# Altium footprint library fromST.PcbLib: 65 footprints (part 3 of 5)
Each footprint in its own frame and in the unit in brackets; x right, y up, seen from the top. Pads: shape width x height; smd on the part's side, far side on the other; paste and mask are expansions set on the pad; w line width, h text height; cw(c..) or ccw(c..) is an arc to the next point about the centre after c.
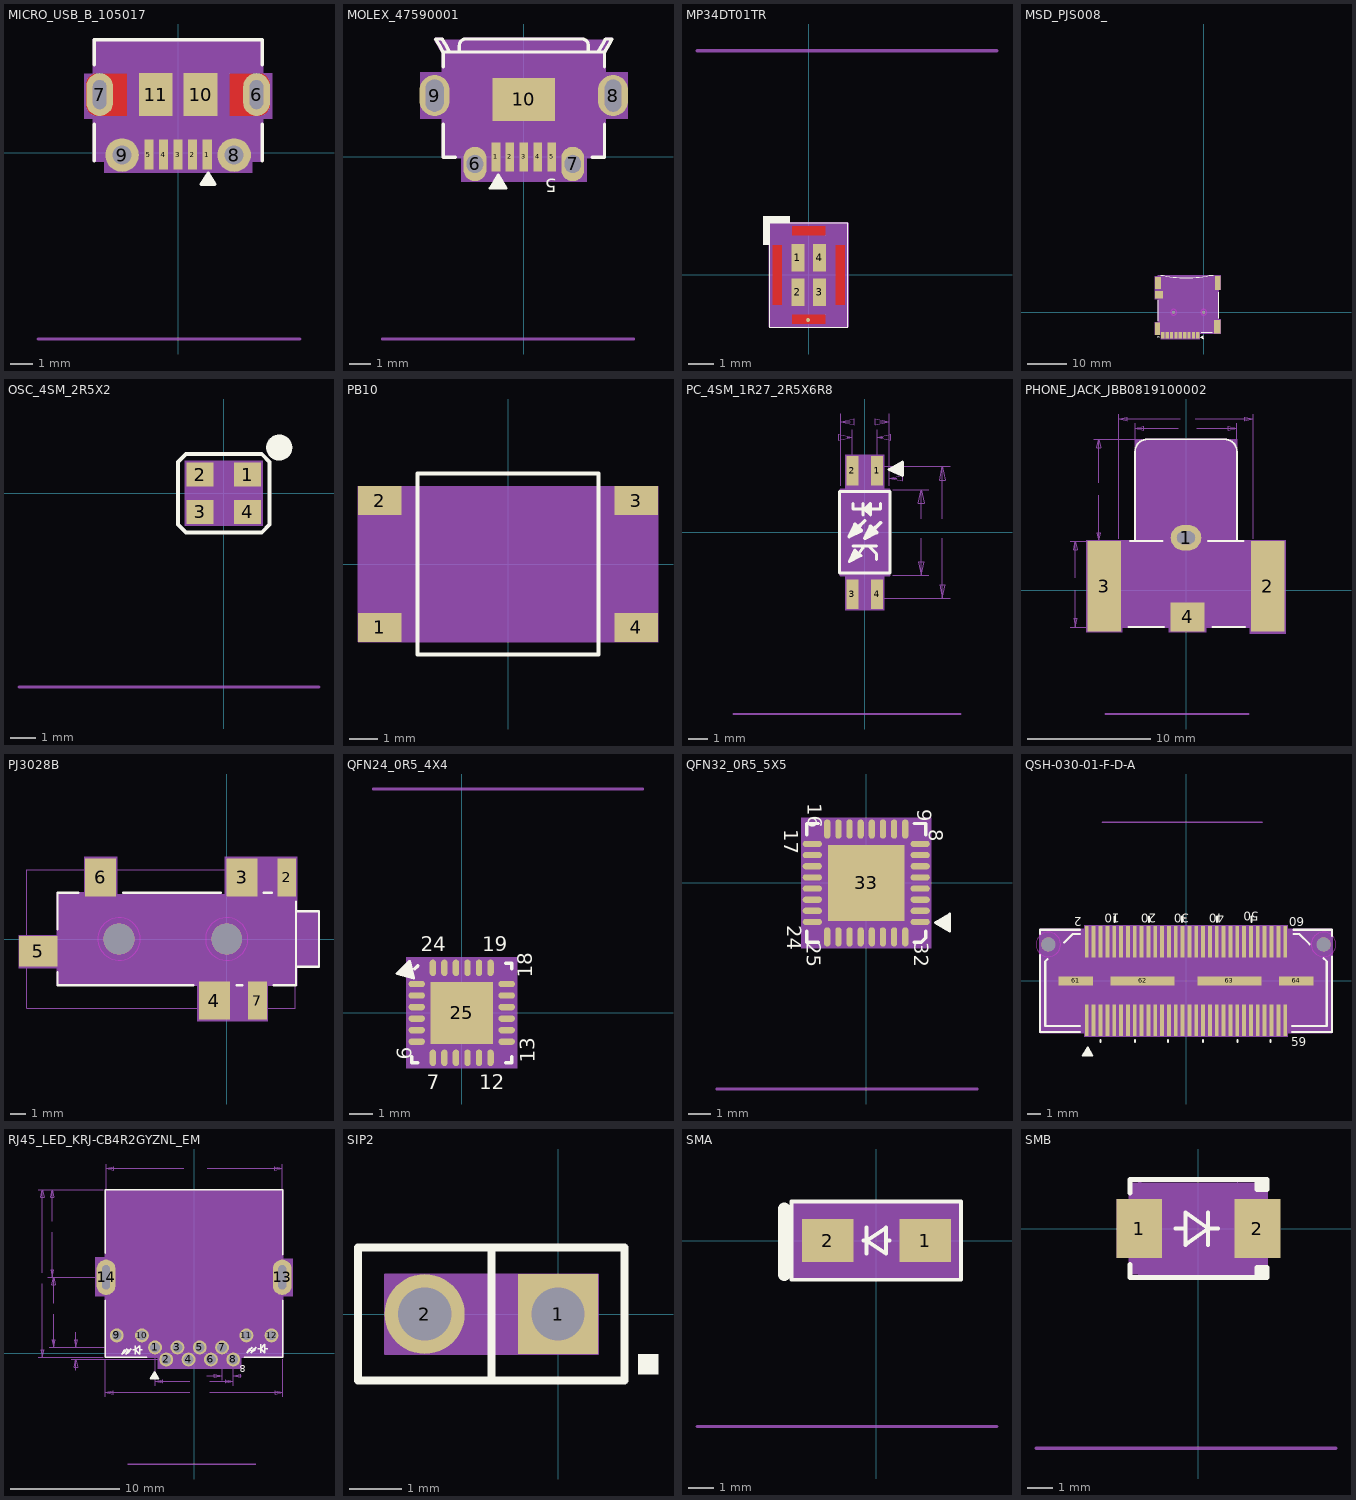
[diagram p2: the footprints below, top view; thin cyan lines are the x and y axes]

## MICRO_USB_B_105017 [mil]
pads (11):
  rect 16x53 smd: 1(51.18,-2.95) 2(25.59,-2.95) 3(0,-2.95) 4(-25.59,-2.95) 5(-51.18,-2.95)
  oval 47x75 hole 24 slot 51 at 90 deg: 6(137.8,102.36) 7(-137.8,102.36)
  round 59 hole 33: 8(98.43,-3.94) 9(-98.43,-3.94)
  rect 59x75 smd: 10(39.37,102.36) 11(-39.37,102.36)
Top Layer:
  region: -161.42,120.08 -161.42,84.65 -161.35,82.93 -161.12,81.23 -160.75,79.55 -160.23,77.92 -159.58,76.33 -158.78,74.81 -157.86,73.36 -156.81,71.99 -155.65,70.73 -154.39,69.57 -153.02,68.52 -151.57,67.6 -150.05,66.8 -148.46,66.15 -146.83,65.63 -145.15,65.26 -143.45,65.03 -141.73,64.96 -90.55,64.96 -90.55,139.25 -146.19,139.25 -147.84,138.79 -149.45,138.19 -151,137.45 -152.48,136.57 -153.87,135.57 -155.18,134.46 -156.38,133.23 -157.47,131.9 -158.44,130.49 -159.29,128.99 -160,127.43 -160.57,125.81 -160.99,124.15 -161.28,122.45 -161.41,120.74
  region: 161.42,84.65 161.42,120.08 161.34,121.8 161.12,123.5 160.75,125.17 160.23,126.81 159.57,128.4 158.78,129.92 157.86,131.37 156.81,132.73 155.65,133.99 154.38,135.15 153.02,136.2 151.57,137.12 150.05,137.91 148.46,138.57 146.97,139.05 90.55,139.05 90.55,64.96 141.73,64.96 143.45,65.03 145.15,65.26 146.83,65.63 148.46,66.15 150.05,66.8 151.57,67.6 153.02,68.52 154.39,69.57 155.65,70.73 156.81,71.99 157.86,73.36 158.78,74.81 159.58,76.33 160.23,77.92 160.75,79.55 161.12,81.23 161.35,82.93
Bottom Layer:
  region: 161.42,84.65 161.42,120.08 161.34,121.8 161.12,123.5 160.75,125.17 160.23,126.81 159.57,128.4 158.78,129.92 157.86,131.37 156.81,132.73 155.65,133.99 154.38,135.15 153.02,136.2 151.57,137.12 150.05,137.91 148.46,138.57 146.97,139.05 90.55,139.05 90.55,64.96 141.73,64.96 143.45,65.03 145.15,65.26 146.83,65.63 148.46,66.15 150.05,66.8 151.57,67.6 153.02,68.52 154.39,69.57 155.65,70.73 156.81,71.99 157.86,73.36 158.78,74.81 159.58,76.33 160.23,77.92 160.75,79.55 161.12,81.23 161.35,82.93
  region: -161.42,120.08 -161.42,84.65 -161.35,82.93 -161.12,81.23 -160.75,79.55 -160.23,77.92 -159.58,76.33 -158.78,74.81 -157.86,73.36 -156.81,71.99 -155.65,70.73 -154.39,69.57 -153.02,68.52 -151.57,67.6 -150.05,66.8 -148.46,66.15 -146.83,65.63 -145.15,65.26 -143.45,65.03 -141.73,64.96 -90.55,64.96 -90.55,139.25 -146.19,139.25 -147.84,138.79 -149.45,138.19 -151,137.45 -152.48,136.57 -153.87,135.57 -155.18,134.46 -156.38,133.23 -157.47,131.9 -158.44,130.49 -159.29,128.99 -160,127.43 -160.57,125.81 -160.99,124.15 -161.28,122.45 -161.41,120.74
Top Overlay:
  lines w5: 52,-46.5 57,-46.5 53,-40.5 47,-49.5 58,-49.5 60,-52.5 45,-52.5 40,-55.55 ; 40,-55.55 65,-55.55 ; 40,-55.55 53,-35.5 65,-55.55 ; 40,-55.55 65,-55.55
  lines w6: -147.64,-13.78 -147.64,50 ; -147.64,155 -147.64,198.82 147.64,198.82 147.64,155 ; 147.64,-13.78 147.64,50
  text ".Designator" at 297,84.45 h34
Top Paste:
  pour cut-out: 161.42,84.65 161.42,120.08 161.35,121.8 161.12,123.5 160.75,125.17 160.23,126.81 159.58,128.4 158.78,129.92 157.86,131.37 156.82,132.73 155.66,134 154.39,135.16 153.03,136.2 151.58,137.12 150.06,137.92 148.47,138.57 146.83,139.09 145.16,139.46 143.46,139.69 141.74,139.76 141.73,139.76 90.55,139.76 90.55,64.96 141.73,64.96 143.45,65.03 145.15,65.26 146.83,65.63 148.46,66.15 150.05,66.8 151.57,67.6 153.02,68.52 154.39,69.57 155.65,70.73 156.81,71.99 157.86,73.36 158.78,74.81 159.58,76.33 160.23,77.92 160.75,79.55 161.12,81.23 161.35,82.93
  pour cut-out: -161.42,120.08 -161.42,84.65 -161.35,82.93 -161.12,81.23 -160.75,79.55 -160.23,77.92 -159.58,76.33 -158.78,74.81 -157.86,73.36 -156.81,71.99 -155.65,70.73 -154.39,69.57 -153.02,68.52 -151.57,67.6 -150.05,66.8 -148.46,66.15 -146.83,65.63 -145.15,65.26 -143.45,65.03 -141.73,64.96 -90.55,64.96 -90.55,139.76 -141.73,139.76 -143.45,139.69 -145.15,139.46 -146.82,139.09 -148.46,138.58 -150.05,137.92 -151.57,137.13 -153.02,136.21 -154.38,135.16 -155.65,134 -156.81,132.74 -157.86,131.38 -158.78,129.93 -159.57,128.41 -160.23,126.82 -160.75,125.18 -161.12,123.51 -161.34,121.81 -161.42,120.09
Bottom Paste:
  pour cut-out: 161.42,84.65 161.42,120.08 161.35,121.8 161.12,123.5 160.75,125.17 160.23,126.81 159.58,128.4 158.78,129.92 157.86,131.37 156.82,132.73 155.66,134 154.39,135.16 153.03,136.2 151.58,137.12 150.06,137.92 148.47,138.57 146.83,139.09 145.16,139.46 143.46,139.69 141.74,139.76 141.73,139.76 90.55,139.76 90.55,64.96 141.73,64.96 143.45,65.03 145.15,65.26 146.83,65.63 148.46,66.15 150.05,66.8 151.57,67.6 153.02,68.52 154.39,69.57 155.65,70.73 156.81,71.99 157.86,73.36 158.78,74.81 159.58,76.33 160.23,77.92 160.75,79.55 161.12,81.23 161.35,82.93
  pour cut-out: -161.42,120.08 -161.42,84.65 -161.35,82.93 -161.12,81.23 -160.75,79.55 -160.23,77.92 -159.58,76.33 -158.78,74.81 -157.86,73.36 -156.81,71.99 -155.65,70.73 -154.39,69.57 -153.02,68.52 -151.57,67.6 -150.05,66.8 -148.46,66.15 -146.83,65.63 -145.15,65.26 -143.45,65.03 -141.73,64.96 -90.55,64.96 -90.55,139.76 -141.73,139.76 -143.45,139.69 -145.15,139.46 -146.82,139.09 -148.46,138.58 -150.05,137.92 -151.57,137.13 -153.02,136.21 -154.38,135.16 -155.65,134 -156.81,132.74 -157.86,131.38 -158.78,129.93 -159.57,128.41 -160.23,126.82 -160.75,125.18 -161.12,123.51 -161.34,121.81 -161.42,120.09
Top Solder:
  pour cut-out: -164.42,84.65 -164.42,120.08 -164.33,122.06 -164.08,124.02 -163.65,125.95 -163.05,127.84 -162.3,129.66 -161.38,131.42 -160.32,133.09 -159.11,134.66 -157.78,136.12 -156.32,137.45 -154.75,138.66 -153.08,139.72 -151.32,140.64 -149.5,141.39 -147.61,141.99 -145.68,142.42 -143.72,142.67 -141.74,142.76 -141.73,142.76 -87.55,142.76 -87.55,61.96 -141.73,61.96 -143.71,62.05 -145.67,62.3 -147.6,62.73 -149.49,63.33 -151.32,64.09 -153.07,65 -154.74,66.06 -156.31,67.27 -157.77,68.61 -159.11,70.07 -160.32,71.64 -161.38,73.31 -162.29,75.06 -163.05,76.89 -163.65,78.78 -164.08,80.71 -164.33,82.67
  pour cut-out: 164.42,120.08 164.42,84.65 164.33,82.67 164.08,80.71 163.65,78.78 163.05,76.89 162.29,75.06 161.38,73.31 160.32,71.64 159.11,70.07 157.77,68.61 156.31,67.27 154.74,66.06 153.07,65 151.32,64.09 149.49,63.33 147.6,62.73 145.67,62.3 143.71,62.05 141.73,61.96 87.55,61.96 87.55,142.76 141.73,142.76 143.71,142.67 145.67,142.42 147.6,141.99 149.49,141.4 151.32,140.64 153.07,139.73 154.74,138.66 156.31,137.46 157.77,136.12 159.11,134.67 160.31,133.1 161.38,131.43 162.29,129.67 163.05,127.85 163.64,125.96 164.07,124.03 164.33,122.07 164.42,120.09
Bottom Solder:
  pour cut-out: 164.42,120.08 164.42,84.65 164.33,82.67 164.08,80.71 163.65,78.78 163.05,76.89 162.29,75.06 161.38,73.31 160.32,71.64 159.11,70.07 157.77,68.61 156.31,67.27 154.74,66.06 153.07,65 151.32,64.09 149.49,63.33 147.6,62.73 145.67,62.3 143.71,62.05 141.73,61.96 87.55,61.96 87.55,142.76 141.73,142.76 143.71,142.67 145.67,142.42 147.6,141.99 149.49,141.4 151.32,140.64 153.07,139.73 154.74,138.66 156.31,137.46 157.77,136.12 159.11,134.67 160.31,133.1 161.38,131.43 162.29,129.67 163.05,127.85 163.64,125.96 164.07,124.03 164.33,122.07 164.42,120.09
  pour cut-out: -164.42,84.65 -164.42,120.08 -164.33,122.06 -164.08,124.02 -163.65,125.95 -163.05,127.84 -162.3,129.66 -161.38,131.42 -160.32,133.09 -159.11,134.66 -157.78,136.12 -156.32,137.45 -154.75,138.66 -153.08,139.72 -151.32,140.64 -149.5,141.39 -147.61,141.99 -145.68,142.42 -143.72,142.67 -141.74,142.76 -141.73,142.76 -87.55,142.76 -87.55,61.96 -141.73,61.96 -143.71,62.05 -145.67,62.3 -147.6,62.73 -149.49,63.33 -151.32,64.09 -153.07,65 -154.74,66.06 -156.31,67.27 -157.77,68.61 -159.11,70.07 -160.32,71.64 -161.38,73.31 -162.29,75.06 -163.05,76.89 -163.65,78.78 -164.08,80.71 -164.33,82.67
Mechanical 32:
  circle w20: c50,0 r10
  region: 165,139.92 150,139.92 150,200 -150,200 -150,138.92 -165,138.92 -165,60 -150,60 -150,-15 -130,-15 -130,-35 130,-35 130,-15 150,-15 150,60 165,60
  lines w5: -246,-327 214,-327 ; -147.64,-13.78 147.64,-13.78 147.64,198.82 -147.64,198.82 -147.64,-13.78
  text "10" at 26.57,102.36 h16
  text "11" at -52.17,102.36 h16
  text "7" at -144.2,102.36 h16
  text "9" at -104.83,-3.94 h16
  text "6" at 131.4,102.36 h16
  text "8" at 92.03,-3.94 h16
  text "5" at -57.58,-2.95 h16
  text "4" at -31.99,-2.95 h16
  text "1" at 44.78,-2.95 h16
  text "2" at 19.19,-2.95 h16
  text "3" at -6.4,-2.95 h16
  text "NO" at -28,120 h35
  text "1050170001" at -60,293.9 h30
  text "MICRO_USB_B_105017" at -241,293.9 h30
  text "Remark: D031-012A1" at 184,-127 h25
  text "Rev   : A1" at 184,-167 h25
  text "Date  : 2014-07-16" at 184,-207 h25
  text "Creat : Yuki" at 184,-247 h25
  text "Ref PN: MOLEX_105017-001" at 184,-287 h25
  text "Sofer Lib Information" at 214,-337 h25
3D body: height 150, standoff 0, extent -165,-35 165,200

## MOLEX_47590001 [mil]
pads (10):
  rect 16x53 smd: 1(-51.18,0) 2(-25.59,0) 3(0,0) 4(25.59,0) 5(51.18,0)
  oval 42x63 hole 30 slot 33 at 90 deg: 6(-89.57,-12.8) 7(89.57,-12.8)
  oval 55x75 hole 30 slot 59 at 90 deg mask+2: 8(163.39,112.4)
  oval 55x75 hole 33 slot 59 at 90 deg mask+2: 9(-163.39,112.4)
  rect 114x79 smd: 10(0,105.31)
Top Overlay:
  lines w5: -48,-43.5 -43,-43.5 -47,-37.5 -53,-46.5 -42,-46.5 -40,-49.5 -55,-49.5 -57,-53.5 -37,-53.5 -37,-57.5 -32,-57.5 ; -32,-57.5 -62,-57.5 -47,-32.5 -32,-57.5
  lines w6: -147.64,60 -147.64,-0.59 -125,-0.59 ; -147.64,165 -147.64,192.32 ; -135.83,192.32 -143.77,205.94 -149.61,215.94 -161.42,215.94 -155.58,205.94 -147.64,192.32 ; -118.11,191.97 -118.11,204.13 cw(c-106.3,204.13) -106.3,215.94 106.3,215.94 cw(c106.3,204.13) 118.11,204.13 118.11,191.97 ; 125,-0.59 147.64,-0.59 147.64,60 ; 135.83,192.32 143.77,205.94 149.61,215.94 161.42,215.94 155.58,205.94 147.64,192.32 ; 147.64,165 147.64,192.32 ; -147.64,192.32 147.64,192.32
  text "5" at 60,-40 h25
  text ".Designator" at -234.87,87.8 h34
Mechanical 16:
  region: -150,70 -190,70 -190,155 -150,155 -150,190 -164.78,215.13 162.51,215.02 150,190 150,155 190,155 190,70 150,70 150,0 115,0 115,-45 -115,-45 -115,0 -150,0
  lines w5: -259,-333.22 201,-333.22 ; -135.83,192.32 -143.77,205.94 -149.61,215.94 -161.42,215.94 -155.58,205.94 -147.64,192.32 ; -118.11,191.97 -118.11,204.13 cw(c-106.3,204.13) -106.3,215.94 106.3,215.94 cw(c106.3,204.13) 118.11,204.13 118.11,191.97 ; -98.43,-0.59 -98.43,-12.4 98.43,-12.4 98.43,-0.59 ; 135.83,192.32 143.77,205.94 149.61,215.94 161.42,215.94 155.58,205.94 147.64,192.32 ; -147.64,192.32 -147.64,129.13 -170.28,129.13 -170.28,95.67 -147.64,95.67 -147.64,-0.59 147.64,-0.59 147.64,95.67 170.28,95.67 170.28,129.13 147.64,129.13 147.64,192.32 ; -147.64,192.32 147.64,192.32
Mechanical 32:
  text "4" at 19.19,0 h16
  text "9" at -169.79,112.4 h16
  text "8" at 156.99,112.4 h16
  text "10" at -12.8,105.31 h16
  text "5" at 44.78,0 h16
  text "7" at 83.17,-12.8 h16
  text "6" at -95.97,-12.8 h16
  text "1" at -57.58,0 h16
  text "2" at -31.99,0 h16
  text "3" at -6.4,0 h16
  text "475900001" at -73,330 h30
  text "MOLEX_47590001" at -183,335 h30
  text "Remark: D031-005A1" at 171,-133.22 h25
  text "Rev   : A1" at 171,-173.22 h25
  text "Date  : 2011-10-18" at 171,-213.22 h25
  text "Creat : Yuki" at 171,-253.22 h25
  text "Ref PN: MOLEX 47590001" at 171,-293.22 h25
  text "Sofer Lib Information" at 201,-343.22 h25
3D body: height 150, standoff 0, extent -190,-45 190,215.13

## MP34DT01TR [mil]
pads (5):
  rect 20x42 smd: 1(-16.73,26.57) 2(-16.73,-26.57) 3(16.73,-26.57) 4(16.73,26.57)
  round 6 smd: 5(-1,-69)
Top Layer:
  region: -25.59,74.89 -25.59,61.11 25.59,61.11 25.59,74.89
  region: -25.59,-61.11 -25.59,-74.89 25.59,-74.89 25.59,-61.11
  region: -54.89,45.28 -54.89,-45.28 -41.11,-45.28 -41.11,45.28
  region: 41.11,45.28 41.11,-45.28 54.89,-45.28 54.89,45.28
Top Overlay:
  pour cut-out: -29,80 -29,90 -70,90 -70,46 -60,46 -60,80
  lines w1: -60,-80 -60,80 60,80 60,-80 -60,-80
  text ".Designator" at -85.06,-89.43 h34
Top Paste:
  pour cut-out: -25.59,-74.89 25.59,-74.89 25.59,-61.11 -25.59,-61.11
  pour cut-out: 41.11,-45.28 54.89,-45.28 54.89,45.28 41.11,45.28
  pour cut-out: -54.89,-45.28 -41.11,-45.28 -41.11,45.28 -54.89,45.28
  pour cut-out: -25.59,61.11 25.59,61.11 25.59,74.89 -25.59,74.89
Top Solder:
  pour cut-out: -25.59,61.11 25.59,61.11 25.59,74.89 -25.59,74.89
  pour cut-out: 41.11,-45.28 54.89,-45.28 54.89,45.28 41.11,45.28
  pour cut-out: -54.89,-45.28 -41.11,-45.28 -41.11,45.28 -54.89,45.28
  pour cut-out: -25.59,-74.89 25.59,-74.89 25.59,-61.11 -25.59,-61.11
Mechanical 16:
  circle w20: c-46,67 r10
  region: 58.89,-79.08 58.89,78.76 -58.42,78.76 -58.42,-79.08
  lines w5: -171.42,343.69 288.58,343.69 ; -59.06,-78.74 -59.06,78.74 59.06,78.74 59.06,-78.74 -59.06,-78.74
Mechanical 32:
  text "OK" at 0,-28 h35
  text "Remark: D031-006A1" at -141.42,143.69 h25
  text "Rev   : A1" at -141.42,183.69 h25
  text "Date  : 2012-07-31" at -141.42,223.69 h25
  text "Creat : Yuki" at -141.42,263.69 h25
  text "Ref PN: MP34DT01TR" at -141.42,303.69 h25
  text "Sofer Lib Information" at -171.42,353.69 h25
  text "MP34DT01" at 26.14,-240.58 h30
  text "MP34DT01TR" at 20.71,-270.02 h30
  text "3" at 22.04,-44.51 h16
  text "1" at -11.43,8.64 h16
  text "2" at -11.43,-44.51 h16
  text "4" at 22.04,8.64 h16
  text "5" at -1,-75.4 h16
3D body: height 150, standoff 0, extent -58.42,-79.08 58.89,78.76

## MSD_PJS008_ [mil]
pads (16):
  rect 32x63 smd: 1(-58.07,-228.35) 2(-101.38,-228.35) 3(-144.69,-228.35) 4(-187.99,-228.35) 5(-231.3,-228.35) 6(-274.61,-228.35) 7(-317.91,-228.35) 8(-361.22,-228.35)
  rect 33x63 smd: 9(-406.5,-228.35)
  rect 77x75 smd: 10(-441.93,173.23)
  rect 60x121 smd: 11(-450.79,289.37)
  rect 55x135 smd: 12(137.93,289.65)
  rect 63x138 smd: 13(133.86,-143.7)
  rect 47x122 smd: 14(-456.69,-163.39)
  round 28 hole 28: " "(-297.24,0) " "(0,0)
Top Overlay:
  lines w5: -18.5,-248 -18.5,-243 -24.5,-247 -15.5,-253 -15.5,-242 -12.5,-240 -12.5,-255 -8.5,-257 -8.5,-237 -4.5,-237 -4.5,-232 ; -4.5,-232 -4.5,-262 -29.5,-247 -4.5,-232
  lines w6: -450,-85 -450,120 ; -425,365 -400,365 ccw(c-172.5,1372.5) 55,365 95,365 ; -24.8,-199.8 85,-199.8 ; 150,-60 150,200
  text "9" at -436,-260 h25
Mechanical 8:
  circle w13.78: c-297.24,0 r6.89
  circle w17.78: c-297.24,0 r8.89
  circle w17.78: c-297.24,0 r8.89
  circle w13.78: c-297.24,0 r6.89
  circle w13.78: c-297.24,0 r6.89
  circle w13.78: c-297.24,0 r6.89
  circle w17.78: c0,0 r8.89
  circle w17.78: c0,0 r8.89
  circle w13.78: c0,0 r6.89
  circle w13.78: c0,0 r6.89
  circle w13.78: c0,0 r6.89
  circle w13.78: c0,0 r6.89
  circle w33.78: c-297.24,0 r16.89
  circle w33.78: c0,0 r16.89
  circle w2.5: c-450,225 r1.25
  circle w2.5: c-450,135 r1.25
  circle w2.5: c-450,205 r1.25
  circle w2.5: c-425,365 r1.25
  circle w2.5: c50.27,363.76 r1.25
  circle w2.5: c92.52,-199.8 r1.25
  circle w2.5: c75.79,-199.8 r1.25
  circle w2.5: c75.79,-199.8 r1.25
  lines w5: -450,-95 -450,135 ; -450,205 -450,225 ; -425,365 -383.39,365 ; -400.46,363.76 ccw(c-175.09,1523.16) 50.27,363.76 ; -31.5,-199.8 75.79,-199.8 92.52,-199.8 ; 50,365 100,365 ; 150,-60 150,200
Multi-Layer keep-out:
  circle w1: c0,0 r29
  circle w1: c-297.24,0 r29
Mechanical 32:
  region: 170,365 -425,365 -425,355 -485,355 -485,130 -450,130 -450,-100 -485,-100 -485,-225 -425,-225 -425,-265 -40,-265 -40,-215 170,-215 170,-70 150,-70 150,220 170,220
  lines w1: -450,-200 -450,365 150,365 150,-200 -450,-200
  text "6" at -268.21,-228.35 h16
  text "9" at -400.1,-228.35 h16
  text "10" at -429.13,173.23 h16
  text "4" at -181.59,-228.35 h16
  text "1" at -51.67,-228.35 h16
  text "12" at 150.73,289.65 h16
  text "13" at 146.66,-143.7 h16
  text "11" at -437.99,289.37 h16
  text "14" at -443.89,-163.39 h16
  text "5" at -224.9,-228.35 h16
  text "8" at -354.82,-228.35 h16
  text "3" at -138.29,-228.35 h16
  text "7" at -311.51,-228.35 h16
  text "2" at -94.98,-228.35 h16
  text ".Designator" at -112,90 h40
3D body: height 150, standoff 0, extent -485,-265 170,365

## OSC_4SM_2R5X2 [mil]
pads (4):
  rect 41x37 smd: 1(36.42,28.54) 2(-36.42,28.54) 3(-36.42,-28.54) 4(36.42,-28.54)
Top Overlay:
  circle w20: c85,70 r10
  lines w6: -70,-48.19 -70,48.19 -58.19,60 58.19,60 70,48.19 70,-48.19 58.19,-60 -58.19,-60 -70,-48.19
Mechanical 32:
  circle w20: c25,15 r10
  region: 60,50 -60,50 -60,-50 60,-50
  lines w1: -49.21,-39.37 -49.21,39.37 49.21,39.37 49.21,-39.37 -49.21,-39.37
  lines w5: -314,-297 146,-297 ; -49.21,-39.37 49.21,-39.37 49.21,39.37 -49.21,39.37 -49.21,-39.37
  text "Remark: ***" at 116,-97 h25
  text "Rev   : B2" at 116,-137 h25
  text "Date  : 2009-05-26" at 116,-177 h25
  text "Creat : Sofer Tech" at 116,-217 h25
  text "Ref PN: ***" at 116,-257 h25
  text "Sofer Lib Information" at 146,-307 h25
  text "Approved" at 112,0 h35
  text "NZ2520SB-24.00M" at 185,130 h30
  text "OSC_4SM_2R5X2" at 161,125 h30
  text ".Designator" at 24,15 h30
  text "3" at -30.02,-28.54 h16
  text "4" at 42.82,-28.54 h16
  text "1" at 42.82,28.54 h16
  text "2" at -30.02,28.54 h16
3D body: height 150, standoff 0, extent -60,-50 60,50

## PB10 [mil]
pads (4):
  rect 60x40 smd paste+15: 1(-177.17,-87.5) 2(-177.17,87.5) 3(177.17,87.5) 4(177.17,-87.5)
Top Overlay:
  lines w6: -125,-125 125,-125 125,125 -125,125 -125,-125
Mechanical 32:
  region: -207.17,-107.5 207.17,-107.5 207.17,107.5 -207.17,107.5
  lines w1: -207.17,-107.5 -207.17,107.5 207.17,107.5 207.17,-107.5 -207.17,-107.5
  text ".Designator" at -207.17,186 h60
  text "4" at 183.57,-87.5 h16
  text "1" at -170.77,-87.5 h16
  text "2" at -170.77,87.5 h16
  text "3" at 183.57,87.5 h16
3D body: height 150, standoff 0, extent -207.17,-107.5 207.17,107.5

## PC_4SM_1R27_2R5X6R8 [mil]
pads (4):
  rect 24x60 smd: 1(25,125.08) 2(-25,125.08) 3(-25,-125.08) 4(25,-125.08)
Top Overlay:
  lines w6: -23.62,-27.56 23.62,-27.56 ; -23.62,59.06 -23.62,47.24 3.94,47.24 ; -3.94,-31.5 -15.75,-47.24 -23.62,-51.18 -15.75,-39.37 -15.75,-43.31 -7.87,-47.24 ; -3.94,35.43 -3.94,59.06 ; 7.87,-27.56 23.62,-43.31 23.62,-55.12 ; 7.87,43.31 7.87,47.24 ; 7.87,51.18 7.87,47.24 ; 31.5,59.06 31.5,47.24 11.81,47.24 ; -7.87,-47.24 -31.5,-59.06 -19.69,-35.43 -7.87,-47.24 ; 7.87,47.24 11.81,47.24 ; 7.87,47.24 11.81,47.24 ; 11.81,47.24 11.81,59.06 0,47.24 11.81,35.43 11.81,47.24 ; 65.04,135.31 57.17,127.44 65.04,123.5 65.04,135.31 ; 65.04,135.31 68.98,135.31 68.98,119.57 72.91,119.57 72.91,139.25 76.85,139.25 76.85,143.19 ; 76.85,143.19 49.29,127.44 76.85,115.63 76.85,143.19 ; -51.18,-82.68 51.18,-82.68 51.18,82.68 -51.18,82.68 -51.18,-82.68
  lines w7.87: -19.69,3.94 -23.62,0 0,23.62 -15.75,7.87 -7.87,3.94 ; 11.81,0 7.87,-3.94 31.5,19.69 15.75,3.94 23.62,0 ; -7.87,3.94 -31.5,-7.87 -19.69,15.75 -7.87,3.94 ; 23.62,0 0,-11.81 11.81,11.81 23.62,0
  text ".Designator" at 70,-35 h34
Mechanical 32:
  circle w5: c23.62,59.06 r12.45
  region: -51.18,86.61 -51.18,-86.61 -39.37,-86.61 -39.37,-157.48 39.37,-157.48 39.37,-86.61 51.18,-86.61 51.18,86.61 39.37,86.61 39.37,157.48 -39.37,157.48 -39.37,86.61
  lines w1: -49.21,94.49 -49.21,240.16 ; -36,192.91 -25,192.91 ; -30.12,110.24 25,110.24 ; -30,224.41 -49.21,224.41 ; -25,132.95 -25,208.66 ; 25,94.49 25,117.2 ; 25,132.95 25,208.66 ; 30,224.41 49.21,224.41 ; 36,192.91 25,192.91 ; 40.75,-133.86 173.23,-133.86 ; 40.75,133.86 173.23,133.86 ; 49.21,125.98 49.21,94.49 49.21,240.16 ; 57.09,-86.61 129.92,-86.61 ; 57.09,86.61 129.92,86.61 ; 64.3,110.24 49.21,110.24 ; 114.17,-12.13 114.17,-86.61 ; 114.17,27.87 114.17,86.61 ; 157.48,-12.13 157.48,-133.86 ; 157.48,27.87 157.48,133.86 ; -49.21,224.41 -21.65,230.31 -21.65,218.5 -49.21,224.41 ; -25,192.91 -52.56,187.01 -52.56,198.82 -25,192.91 ; 25,110.24 -2.56,104.33 -2.56,116.14 25,110.24 ; 25,192.91 52.56,198.82 52.56,187.01 25,192.91 ; 49.21,110.24 76.77,116.14 76.77,104.33 49.21,110.24 ; 49.21,224.41 21.65,218.5 21.65,230.31 49.21,224.41 ; 114.17,-86.61 108.27,-59.06 120.08,-59.06 114.17,-86.61 ; 114.17,86.61 120.08,59.06 108.27,59.06 114.17,86.61 ; 157.48,-133.86 151.57,-106.3 163.39,-106.3 157.48,-133.86 ; 157.48,133.86 163.39,106.3 151.57,106.3 157.48,133.86
  lines w5: -266.09,-368.14 193.91,-368.14 ; -32.87,-86.61 -49.21,-86.61 -49.21,86.61 -32.87,86.61 ; -32.87,-86.61 -32.87,-133.86 32.87,-133.86 32.87,-86.61 ; -32.87,-86.61 32.87,-86.61 ; -32.87,86.61 32.87,86.61 ; -32.87,86.61 -32.87,133.86 32.87,133.86 32.87,86.61 ; 32.87,-86.61 49.21,-86.61 49.21,86.61 32.87,86.61
  text "2" at -31.4,125.08 h16
  text "3" at -31.4,-125.08 h16
  text "4" at 18.6,-125.08 h16
  text "1" at 18.6,125.08 h16
  text "DP_4SM_1R27_2R5X6R8" at -267.37,330.71 h30
  text "HMHA2801A" at -80.44,338.58 h30
  text "Sofer Lib Information" at 193.91,-378.14 h25
  text "Ref PN: HMHA2801A" at 163.91,-328.14 h25
  text "Creat : Yuki" at 163.91,-288.14 h25
  text "Date  : 2015-11-16" at 163.91,-248.14 h25
  text "Rev   : A1" at 163.91,-208.14 h25
  text "Remark: D031-019A1" at 163.91,-168.14 h25
  text "NO" at -28,0 h35
  text "6.8" at 175.48,15.87 h16
  text "4.4" at 132.17,15.87 h16
  text "0.615" at 136.3,118.24 h16
  text "1.27" at 24,200.91 h16
  text "2.5" at 18,232.41 h16
3D body: height 150, standoff 0, extent -51.18,-157.48 51.18,157.48

## PHONE_JACK_JBB0819100002 [mil]
pads (4):
  oval 98x82 hole 42 slot 58 at 0 deg: 1(0,168.5)
  rect 106x290 smd: 2(262.28,12.6) 3(-262.28,12.6)
  rect 109x93 smd: 4(5,-85.16)
Top Overlay:
  lines w6: -185,-118.11 -70,-118.11 ; -180,157.48 -163.39,157.48 ; -75,157.48 -163.39,157.48 ; 70,157.48 163.39,157.48 ; 85,-118.11 190,-118.11 ; 185,157.48 163.39,157.48 ; -163.39,157.48 -163.39,444.88 cw(c-124.02,444.88) -124.02,484.25 124.02,484.25 cw(c124.02,444.88) 163.39,444.88 163.39,157.48
  text ".Designator" at -185,272.25 h34
Mechanical 32:
  region: 320,160 165,160 165,485 -165,485 -165,160 -320,160 -320,-135 -205,-135 -205,-120 -55,-120 -55,-135 65,-135 65,-120 205,-120 205,-140 320,-140
  lines w1: -370.75,-118.11 -224.41,-118.11 ; -370.75,157.48 -224.41,157.48 ; -355,0 -355,-118.11 ; -355,40 -355,157.48 ; -335.75,157.48 -224.41,157.48 ; -295.75,484.25 -131.89,484.25 ; -280,304.69 -280,157.48 ; -280,344.69 -280,484.25 ; -216.54,165.35 -216.54,565.43 ; -163.39,452.76 -163.39,535.43 ; -25,519.69 -163.39,519.69 ; -19,549.69 -216.54,549.69 ; 29,549.69 216.54,549.69 ; 35,519.69 163.39,519.69 ; 163.39,452.76 163.39,535.43 ; 216.54,165.35 216.54,565.43 ; -355,-118.11 -349.09,-90.55 -360.91,-90.55 -355,-118.11 ; -355,157.48 -360.91,129.92 -349.09,129.92 -355,157.48 ; -280,157.48 -274.09,185.04 -285.91,185.04 -280,157.48 ; -280,484.25 -285.91,456.69 -274.09,456.69 -280,484.25 ; -224.41,157.48 -295.75,157.48 -224.41,157.48 ; -216.54,549.69 -188.98,543.78 -188.98,555.59 -216.54,549.69 ; -163.39,519.69 -135.83,513.78 -135.83,525.59 -163.39,519.69 ; 163.39,519.69 135.83,525.59 135.83,513.78 163.39,519.69 ; 216.54,549.69 188.98,555.59 188.98,543.78 216.54,549.69
  lines w5: -259,-397 201,-397 ; -216.54,-118.11 -216.54,148.82 ; 163.39,-118.11 287.4,-118.11 287.4,148.82 216.54,148.82 ; -216.54,148.82 -287.4,148.82 -287.4,-118.11 216.54,-118.11 216.54,148.82 ; -216.54,148.82 -216.54,157.48 -163.39,157.48 ; -163.39,157.48 -163.39,444.88 cw(c-124.02,444.88) -124.02,484.25 124.02,484.25 cw(c124.02,444.88) 163.39,444.88 163.39,157.48 ; -163.39,157.48 163.39,157.48 ; 163.39,157.48 216.54,157.48 216.54,148.82
  text "7" at -349,28 h16
  text "8.3" at -262,332.69 h16
  text "11" at 17,557.69 h16
  text "8.3" at 23,527.69 h16
  text "NO" at 0,83 h35
  text "Remark: D031-019A1" at 171,-197 h25
  text "Rev   : A1" at 171,-237 h25
  text "Date  : 2015-11-16" at 171,-277 h25
  text "Creat : Yuki" at 171,-317 h25
  text "Ref PN: JBB0819100002" at 171,-357 h25
  text "Sofer Lib Information" at 201,-407 h25
  text "RCA_SMD_W" at 5,738 h30
  text "PHONE_JACK_JBB0819100002" at -30,928 h30
  text "4" at 5,-78.76 h16
  text "3" at -262.28,19 h16
  text "1" at 0,174.9 h16
  text "2" at 262.28,19 h16
3D body: height 150, standoff 0, extent -320,-140 320,485

## PJ3028B [mil]
pads (8):
  rect 48x98 smd: 2(153.54,157.48) 7(78.74,-157.48)
  rect 79x98 smd: 3(39.37,157.48) 4(-31.5,-157.48) 6(-322.83,157.48)
  rect 98x79 smd: 5(-482.28,-31.5)
  round 79 hole 79: " "(-275.59,0) " "(0,0)
Top Overlay:
  lines w6: -433.07,-85 -433.07,-118.11 -85,-118.11 ; -433.07,25 -433.07,118.11 -380,118.11 ; -265,118.11 -15,118.11 ; 25,-118.11 40,-118.11 ; 95,118.11 115,118.11 ; 120,-118.11 177.17,-118.11 177.17,95 ; 177.17,-70.87 236.22,-70.87 236.22,70.87 177.17,70.87
Multi-Layer keep-out:
  circle w1: c-275.59,0 r54.33
  circle w1: c0,0 r54.33
Mechanical 32:
  region: 180,210 -5,210 -5,115 -280,115 -280,210 -365,210 -365,120 -435,120 -435,10 -531.5,10 -531.5,-75 -435,-75 -435,-120 -75,-120 -75,-210 105,-210 105,-120 180,-120 180,-70 235,-70 235,70 180,70
  lines w1: -511.81,-177.17 175,-177.17 175,177.17 -511.81,177.17 -511.81,-177.17
  text ".Designator" at -140,-38 h40
  text "5" at -482.28,-37.9 h16
  text "7" at 78.74,-163.88 h16
  text "4" at -31.5,-163.88 h16
  text "6" at -322.83,151.08 h16
  text "2" at 153.54,151.08 h16
  text "3" at 39.37,151.08 h16
3D body: height 150, standoff 0, extent -531.5,-210 235,210

## QFN24_0R5_4X4 [mil]
pads (25):
  oval 28x11 smd mask+2: 1(-76.77,49.21) 2(-76.77,29.53) 3(-76.77,9.84) 4(-76.77,-9.84) 5(-76.77,-29.53) 6(-76.77,-49.21) 13(76.77,-49.21) 14(76.77,-29.53) 15(76.77,-9.84) 16(76.77,9.84) 17(76.77,29.53) 18(76.77,49.21)
  oval 11x28 smd mask+2: 7(-49.21,-76.77) 8(-29.53,-76.77) 9(-9.84,-76.77) 10(9.84,-76.77) 11(29.53,-76.77) 12(49.21,-76.77) 19(49.21,76.77) 20(29.53,76.77) 21(9.84,76.77) 22(-9.84,76.77) 23(-29.53,76.77) 24(-49.21,76.77)
  rect 106x106 smd: 25(0,0)
Top Overlay:
  lines w5: -88.95,68.17 -92.48,64.64 -85.4,63.25 -87.53,73.82 -95.29,66.06 -98.85,66.78 -88.25,77.39 -89.64,81.62 -103.78,67.48 -106.62,70.32 -110.15,66.78 ; -110.15,66.78 -88.94,88 -81.87,59.71 -110.15,66.78
  lines w6: -85,-75 -85,-85 -75,-85 ; -80,75 -75,80 ; 75,-85 85,-85 85,-75 ; 75,85 85,85 85,75
  text "6" at -85,-80 h25
  text "7" at -60,-130 h25
  text "12" at 30,-130 h25
  text "13" at 125,-85 h25
  text "18" at 120,60 h25
  text "19" at 35,105 h25
  text "24" at -70,105 h25
  text ".Designator" at 125,112 h35
Mechanical 16:
  circle w20: c-55,55 r10
  region: 95,95 95,-95 -95,-95 -95,95
  lines w1: -78.74,-78.74 78.74,-78.74 78.74,78.74 -78.74,78.74 -78.74,-78.74
  lines w5: -151,382 309,382 ; -78.74,-78.74 -78.74,78.74 78.74,78.74 78.74,-78.74 -78.74,-78.74
Mechanical 32:
  text "Remark: ***" at -121,182 h25
  text "Rev   : A1" at -121,222 h25
  text "Date  : 2007-07-31" at -121,262 h25
  text "Creat : Yuki" at -121,302 h25
  text "Ref PN: STMPE1600" at -121,342 h25
  text "Sofer Lib Information" at -151,392 h25
  text "LAN8742A-CZ-TR" at 25,-343 h30
  text "Approved" at 5,-117 h35
  text "QFN24_0R5_4X4" at 40,-326 h30
  text "18" at 80,32.22 h15.98
  text "17" at 80,12.22 h15.98
  text "16" at 80,-2.78 h15.98
  text "10" at 10,-92.78 h15.98
  text "13" at 80,-67.78 h15.98
  text "12" at 50,-92.78 h15.98
  text "14" at 80,-47.78 h15.98
  text "15" at 80,-27.78 h15.98
  text "4" at -75,-21.39 h15.98
  text "21" at 15,57.22 h15.98
  text "20" at 30,57.22 h15.98
  text "23" at -25,57.22 h15.98
  text "22" at -5,57.22 h15.98
  text "2" at -75,18.61 h15.98
  text "3" at -75,-6.39 h15.98
  text "24" at -45,57.22 h15.98
  text "9" at -10,-86.39 h15.98
  text "6" at -80,-61.39 h15.98
  text "19" at 50,57.22 h15.98
  text "1" at -75,38.61 h15.98
  text "5" at -75,-41.39 h15.98
  text "7" at -50,-86.39 h15.98
  text "8" at -30,-86.39 h15.98
  text "11" at 30,-92.78 h15.98
  text "25" at 0,-17.78 h15.98
3D body: height 150, standoff 0, extent -95,-95 95,95

## QFN32_0R5_5X5 [mil]
pads (33):
  oval 34x11 smd mask+2: 1(95.28,-68.9) 2(95.28,-49.21) 3(95.28,-29.53) 4(95.28,-9.84) 5(95.28,9.84) 6(95.28,29.53) 7(95.28,49.21) 8(95.28,68.9) 17(-95.28,68.9) 18(-95.28,49.21) 19(-95.28,29.53) 20(-95.28,9.84) 21(-95.28,-9.84) 22(-95.28,-29.53) 23(-95.28,-49.21) 24(-95.28,-68.9)
  oval 11x34 smd mask+2: 9(68.9,95.28) 10(49.21,95.28) 11(29.53,95.28) 12(9.84,95.28) 13(-9.84,95.28) 14(-29.53,95.28) 15(-49.21,95.28) 16(-68.9,95.28) 25(-68.9,-95.28) 26(-49.21,-95.28) 27(-29.53,-95.28) 28(-9.84,-95.28) 29(9.84,-95.28) 30(29.53,-95.28) 31(49.21,-95.28) 32(68.9,-95.28)
  rect 135x135 smd mask+2: 33(0,0)
Top Overlay:
  lines w5: 133.5,-71 133.5,-66 127.5,-70 136.5,-76 136.5,-65 139.5,-63 139.5,-78 143.5,-80 143.5,-60 147.5,-60 147.5,-55 ; 147.5,-55 147.5,-85 122.5,-70 147.5,-55
  lines w6: -105,-85 -105,-105 -85,-105 ; -105,85 -105,105 -85,105 ; 85,-105 97.13,-105 105,-97.13 105,-85 ; 85,105 105,105 105,85
  text "8" at 110,95 h25
  text "9" at 90,130 h25
  text "16" at -103,141 h25
  text "17" at -145,95 h25
  text "24" at -140,-75 h25
  text "25" at -105,-105 h25
  text "32" at 85,-105 h25
Mechanical 16:
  circle w20: c70,-70 r10
  region: 115,115 -115,115 -115,-115 115,-115
  lines w1: -98.43,-98.43 -98.43,98.43 98.43,98.43 98.43,-98.43 -98.43,-98.43
  lines w5: -264,-364 196,-364 ; -98.43,-98.43 98.43,-98.43 98.43,98.43 -98.43,98.43 -98.43,-98.43
Mechanical 32:
  text ".Designator" at 0,-21 h30
  text "QFN32_0R5_5X5" at -27,42 h30
  text "USB3320C-EZK" at -13,58 h30
  text "Approved" at 0,-112 h35
  text "Sofer Lib Information" at 196,-374 h25
  text "Ref PN: CDCM61002RHBT" at 166,-324 h25
  text "Creat : Yuki" at 166,-284 h25
  text "Date  : 2007-12-18" at 166,-244 h25
  text "Rev   : B1" at 166,-204 h25
  text "Remark: ***" at 166,-164 h25
  text "1" at 95.28,-75.3 h16
  text "29" at 9.84,-108.08 h16
  text "13" at -9.84,82.48 h16
  text "10" at 49.21,82.48 h16
  text "9" at 68.9,88.88 h16
  text "7" at 95.28,42.81 h16
  text "6" at 95.28,23.13 h16
  text "5" at 95.28,3.44 h16
  text "4" at 95.28,-16.24 h16
  text "27" at -29.53,-108.08 h16
  text "25" at -68.9,-108.08 h16
  text "16" at -68.9,82.48 h16
  text "15" at -49.21,82.48 h16
  text "12" at 9.84,82.48 h16
  text "18" at -95.28,36.41 h16
  text "19" at -95.28,16.73 h16
  text "14" at -29.53,82.48 h16
  text "11" at 29.53,82.48 h16
  text "8" at 95.28,62.5 h16
  text "26" at -49.21,-108.08 h16
  text "2" at 95.28,-55.61 h16
  text "31" at 49.21,-108.08 h16
  text "3" at 95.28,-35.93 h16
  text "30" at 29.53,-108.08 h16
  text "28" at -9.84,-108.08 h16
  text "21" at -95.28,-22.64 h16
  text "20" at -95.28,-2.96 h16
  text "23" at -95.28,-62.01 h16
  text "32" at 68.9,-108.08 h16
  text "24" at -95.28,-81.7 h16
  text "22" at -95.28,-42.33 h16
  text "17" at -95.28,56.1 h16
  text "33" at 0,-12.8 h16
3D body: height 150, standoff 0, extent -115,-115 115,115

## QSH-030-01-F-D-A [mil]
pads (66):
  rect 11x90 smd mask+2: 1(-285.43,-112.99) 2(-285.43,112.99) 3(-265.75,-112.99) 4(-265.75,112.99) 5(-246.06,-112.99) 6(-246.06,112.99) 7(-226.38,-112.99) 8(-226.38,112.99) 9(-206.69,-112.99) 10(-206.69,112.99) 11(-187.01,-112.99) 12(-187.01,112.99) 13(-167.32,-112.99) 14(-167.32,112.99) 15(-147.64,-112.99) 16(-147.64,112.99) 17(-127.95,-112.99) 18(-127.95,112.99) 19(-108.27,-112.99) 20(-108.27,112.99) 21(-88.58,-112.99) 22(-88.58,112.99) 23(-68.9,-112.99) 24(-68.9,112.99) 25(-49.21,-112.99) 26(-49.21,112.99) 27(-29.53,-112.99) 28(-29.53,112.99) 29(-9.84,-112.99) 30(-9.84,112.99) 31(9.84,-112.99) 32(9.84,112.99) 33(29.53,-112.99) 34(29.53,112.99) 35(49.21,-112.99) 36(49.21,112.99) 37(68.9,-112.99) 38(68.9,112.99) 39(88.58,-112.99) 40(88.58,112.99) 41(108.27,-112.99) 42(108.27,112.99) 43(127.95,-112.99) 44(127.95,112.99) 45(147.64,-112.99) 46(147.64,112.99) 47(167.32,-112.99) 48(167.32,112.99) 49(187.01,-112.99) 50(187.01,112.99) 51(206.69,-112.99) 52(206.69,112.99) 53(226.38,-112.99) 54(226.38,112.99) 55(246.06,-112.99) 56(246.06,112.99) 57(265.75,-112.99) 58(265.75,112.99) 59(285.43,-112.99) 60(285.43,112.99)
  rect 100x25 smd mask+3: 61(-317.52,0) 64(317.52,0)
  rect 185x25 smd mask+3: 62(-125,0) 63(125,0)
  round 40 hole 40: " "(-396.26,105.12) " "(396.26,105.12)
Top Overlay:
  lines w5: -284.29,-201.5 -279.29,-201.5 -283.31,-195.51 -289.29,-204.49 -278.31,-204.49 -276.3,-207.52 -291.3,-207.52 -293.31,-211.5 -273.31,-211.5 -273.31,-215.51 -268.31,-215.51 ; -268.31,-215.51 -298.31,-215.51 -283.31,-190.51 -268.31,-215.51
  lines w5.98: -246.3,-175 -246.3,-170 ; -206.3,170 -206.3,185 ; -146.3,-175 -146.3,-170 ; -106.3,170 -106.3,185 ; -51.3,-175 -51.3,-170 ; -11.3,170 -11.3,185 ; 48.7,-175 48.7,-170 ; 88.7,170 88.7,185 ; 148.7,-175 148.7,-170 ; 188.7,170 188.7,185 ; 243.7,-175 243.7,-170
  lines w6: -420,75 -420,-147.44 -305,-147.44 ; -420,135 -420,147.44 -305,147.44 ; -398.13,63.13 -405,56.26 -405,-130 -305,-130 ; -350.63,110.63 -326.26,135 -305,135 ; 305,-147.44 420,-147.44 420,70 ; 305,-130 405,-130 405,56.26 395.63,65.63 ; 310,135 326.26,135 355.63,105.63 ; 310,147.44 420,147.44 420,130
  text "50" at 209.99,198.54 h25
  text "40" at 109.99,193.54 h25
  text "30" at 9.99,193.54 h25
  text "20" at -85.01,193.54 h25
  text "10" at -190.01,193.54 h25
  text "59" at 302.48,-188.38 h25
  text "2" at -300.01,183.54 h25
  text "60" at 339.99,183.54 h25
Mechanical 16:
  circle w20: c-285,-105 r10
  region: -293,-160 293,-160 293,-150 420,-150 420,150 293,150 293,160 -293,160 -293,150 -420,150 -420,-150 -293,-150
  lines w5: -241,457 219,457 ; -420,-147.44 -420,147.44 420,147.44 420,-147.44 -420,-147.44 ; -405,-130 -405,56.26 -326.26,135 326.26,135 405,56.26 405,-130 -405,-130
Multi-Layer keep-out:
  circle w1: c396.26,105.12 r35.43
  circle w1: c-396.26,105.12 r35.43
Mechanical 32:
  text "Remark: D031-013A1" at -211,257 h25
  text "Rev   : A1" at -211,297 h25
  text "Date  : 2014-08-05" at -211,337 h25
  text "Creat : Ziv" at -211,377 h25
  text "Ref PN: QSH-030-01-F-D-A" at -211,417 h25
  text "Sofer Lib Information" at -241,467 h25
  text "QSH-030-01-F-D-A-TR" at 218,-250 h30
  text "QSH-030-01-F-D-A" at 192,-250 h30
  text ".Designator" at 48,-10 h40
  text "47" at 180.1,-112.99 h15.98
  text "40" at 101.36,112.99 h15.98
  text "45" at 160.42,-112.99 h15.98
  text "49" at 199.79,-112.99 h15.98
  text "59" at 298.21,-112.99 h15.98
  text "50" at 199.79,112.99 h15.98
  text "52" at 219.47,112.99 h15.98
  text "54" at 239.16,112.99 h15.98
  text "56" at 258.84,112.99 h15.98
  text "58" at 278.53,112.99 h15.98
  text "51" at 219.47,-112.99 h15.98
  text "55" at 258.84,-112.99 h15.98
  text "42" at 121.05,112.99 h15.98
  text "46" at 160.42,112.99 h15.98
  text "48" at 180.1,112.99 h15.98
  text "41" at 121.05,-112.99 h15.98
  text "43" at 140.73,-112.99 h15.98
  text "32" at 22.62,112.99 h15.98
  text "34" at 42.31,112.99 h15.98
  text "38" at 81.68,112.99 h15.98
  text "31" at 22.62,-112.99 h15.98
  text "33" at 42.31,-112.99 h15.98
  text "22" at -75.8,112.99 h15.98
  text "24" at -56.12,112.99 h15.98
  text "26" at -36.43,112.99 h15.98
  text "28" at -16.75,112.99 h15.98
  text "30" at 2.94,112.99 h15.98
  text "25" at -36.43,-112.99 h15.98
  text "20" at -95.49,112.99 h15.98
  text "2" at -279.04,112.99 h15.98
  text "35" at 61.99,-112.99 h15.98
  text "37" at 81.68,-112.99 h15.98
  text "15" at -134.86,-112.99 h15.98
  text "17" at -115.17,-112.99 h15.98
  text "9" at -200.3,-112.99 h15.98
  text "11" at -174.23,-112.99 h15.98
  text "3" at -259.36,-112.99 h15.98
  text "5" at -239.67,-112.99 h15.98
  text "57" at 278.53,-112.99 h15.98
  text "53" at 239.16,-112.99 h15.98
  text "4" at -259.36,112.99 h15.98
  text "44" at 140.73,112.99 h15.98
  text "60" at 298.21,112.99 h15.98
  text "36" at 61.99,112.99 h15.98
  text "27" at -16.75,-112.99 h15.98
  text "29" at 2.94,-112.99 h15.98
  text "21" at -75.8,-112.99 h15.98
  text "23" at -56.12,-112.99 h15.98
  text "8" at -219.99,112.99 h15.98
  text "10" at -193.91,112.99 h15.98
  text "14" at -154.54,112.99 h15.98
  text "16" at -134.86,112.99 h15.98
  text "39" at 101.36,-112.99 h15.98
  text "1" at -279.04,-112.99 h15.98
  text "7" at -219.99,-112.99 h15.98
  text "13" at -154.54,-112.99 h15.98
  text "19" at -95.49,-112.99 h15.98
  text "61" at -304.74,0 h15.98
  text "6" at -239.67,112.99 h15.98
  text "62" at -112.22,0 h15.98
  text "18" at -115.17,112.99 h15.98
  text "12" at -174.23,112.99 h15.98
  text "63" at 137.78,0 h15.98
  text "64" at 330.3,0 h15.98
3D body: height 150, standoff 0, extent -420,-160 420,160

## RJ45_LED_KRJ-CB4R2GYZNL_EM [mil]
pads (14):
  round 50 hole 35: 1(-140.55,21.65) 2(-100.39,-21.65) 3(-60.24,21.65) 4(-20.08,-21.65) 5(20.08,21.65) 6(60.24,-21.65) 7(100.39,21.65) 8(140.55,-21.65) 9(-277.95,64.96) 10(-187.8,64.96) 11(187.8,64.96) 12(277.95,64.96)
  oval 68x127 hole 28 slot 87 at 90 deg: 13(316.54,273.62) 14(-316.54,273.62)
Top Overlay:
  lines w5: -241,17.52 -261,-2.48 ; -226,17.52 -246,-2.48 ; -221,12.52 -211,12.52 ; -211,-2.48 -211,27.52 ; -196,12.52 -186,12.52 ; -143,-76.5 -138,-76.5 -142,-70.5 -148,-79.5 -137,-79.5 -135,-82.5 -150,-82.5 -152,-86.5 -132,-86.5 -132,-90.5 -127,-90.5 ; 209,22.52 189,2.52 ; 224,22.52 204,2.52 ; 229,17.52 239,17.52 ; 239,2.52 239,32.52 ; 254,17.52 264,17.52 ; -261,-2.48 -246,7.52 -251,12.52 -261,-2.48 ; -246,-2.48 -231,7.52 -236,12.52 -246,-2.48 ; -211,12.52 -196,-2.48 -196,22.52 -196,27.52 -211,12.52 ; -127,-90.5 -157,-90.5 -142,-65.5 -127,-90.5 ; 189,2.52 204,12.52 199,17.52 189,2.52 ; 204,2.52 219,12.52 214,17.52 204,2.52 ; 239,17.52 254,2.52 254,27.52 254,32.52 239,17.52
  lines w6: -318.9,190 -318.9,-13.78 -170,-13.78 ; -318.9,360 -318.9,588.58 318.9,588.58 318.9,355 ; 180,-13.78 318.9,-13.78 318.9,190
  text "8" at 185,-43.23 h25
Mechanical 32:
  circle w20: c-140,20 r10
  region: 355,205 355,340 320,340 320,590 -320,590 -320,345 -355,345 -355,205 -320,205 -320,-15 -130,-15 -130,-55 170,-55 170,-15 320,-15 320,205
  lines w1: -560.75,-13.78 -326.77,-13.78 ; -560.75,588.58 -326.77,588.58 -525.75,588.58 ; -545,250 -545,-13.78 ; -545,290 -545,588.58 ; -525.75,273.62 -324.41,273.62 -520.75,273.62 ; -520.75,21.65 -148.43,21.65 -440.75,21.65 ; -510,435 -510,273.62 ; -510,475 -510,588.58 ; -505,140 -505,21.65 ; -505,180 -505,273.62 ; -440.75,-21.65 -108.27,-21.65 ; -425,-60 -425,-21.65 ; -425,76.77 -425,21.65 ; -318.9,-155.75 -318.9,-21.65 ; -316.54,281.5 -316.54,680.75 ; -140.55,-115.75 -140.55,13.78 ; -37,665 -316.54,665 ; -16,-140 -318.9,-140 ; -16,-100 -140.55,-100 ; 45.28,-80 100.39,-80 ; 47,665 316.54,665 ; 56,-140 318.9,-140 ; 56,-100 140.55,-100 ; 100.39,-95.75 100.39,13.78 ; 140.55,-115.75 140.55,-29.53 140.55,-95.75 ; 169,-80 140.55,-80 ; 316.54,281.5 316.54,680.75 ; 318.9,-155.75 318.9,-21.65 ; -545,-13.78 -550.91,13.78 -539.09,13.78 -545,-13.78 ; -545,588.58 -539.09,561.02 -550.91,561.02 -545,588.58 ; -510,273.62 -515.91,301.18 -504.09,301.18 -510,273.62 ; -510,588.58 -504.09,561.02 -515.91,561.02 -510,588.58 ; -505,21.65 -510.91,49.21 -499.09,49.21 -505,21.65 ; -505,273.62 -499.09,246.06 -510.91,246.06 -505,273.62 ; -425,-21.65 -419.09,-49.21 -430.91,-49.21 -425,-21.65 ; -425,21.65 -430.91,49.21 -419.09,49.21 -425,21.65 ; -318.9,-140 -291.34,-134.09 -291.34,-145.91 -318.9,-140 ; -316.54,665 -288.98,670.91 -288.98,659.09 -316.54,665 ; -140.55,-100 -112.99,-94.09 -112.99,-105.91 -140.55,-100 ; 100.39,-80 72.83,-85.91 72.83,-74.09 100.39,-80 ; 140.55,-100 112.99,-105.91 112.99,-94.09 140.55,-100 ; 140.55,-80 168.11,-74.09 168.11,-85.91 140.55,-80 ; 316.54,665 288.98,659.09 288.98,670.91 316.54,665 ; 318.9,-140 291.34,-145.91 291.34,-134.09 318.9,-140
  lines w5: -238.57,-397.2 221.43,-397.2 ; -107.4,-13.78 -107.4,-28.54 147.44,-28.54 147.44,-13.78 ; -107.4,-13.78 -318.9,-13.78 -318.9,588.58 318.9,588.58 318.9,-13.78 147.44,-13.78 ; -107.4,-13.78 147.44,-13.78
  text "8" at 140.55,-28.05 h16
  text "7" at 100.39,15.25 h16
  text "6" at 60.24,-28.05 h16
  text "4" at -20.08,-28.05 h16
  text "5" at 20.08,15.25 h16
  text "3" at -60.24,15.25 h16
  text "2" at -100.39,-28.05 h16
  text "1" at -140.55,15.25 h16
  text "12" at 277.95,52.16 h16
  text "11" at 187.8,52.16 h16
  text "10" at -187.8,52.16 h16
  text "9" at -277.95,58.56 h16
  text "14" at -316.54,260.82 h16
  text "13" at 316.54,260.82 h16
  text "RJ45_LED_KRJ-CB4R2GYZNL" at -10,464 h30
  text "KRJ-CB4" at 20,646 h30
  text "Sofer Lib Information" at 221.43,-407.2 h25
  text "Ref PN: KRJ-CB4.2GYZNL" at 191.43,-357.2 h25
  text "Creat : Yuki" at 191.43,-317.2 h25
  text "Date  : 2015-11-13" at 191.43,-277.2 h25
  text "Rev   : A1" at 191.43,-237.2 h25
  text "Remark: D031-015A2" at 191.43,-197.2 h25
  text ".Designator" at 5,196 h40
  text "NO" at 10,227 h35
  text "16.2" at 44,-132 h16
  text "15.3" at -521,278 h16
  text "8" at -504,463 h16
  text "6.4" at -487,168 h16
  text "1.1" at -407,-72 h16
  text "7.14" at 44,-92 h16
  text "1.02" at 229,-72 h16
  text "16.08" at 35,673 h16
3D body: height 150, standoff 0, extent -355,-55 355,590

## SIP2 [mil]
pads (2):
  rect 60x60 / inner round 60 / far side rect 60x60 hole 40: 1(0,0)
  round 60 hole 40: 2(-100,0)
Top Overlay:
  pour cut-out: 75,-30 75,-45 60,-45 60,-30
  lines w6: -50.04,-49.96 -50.04,50.04 ; -150.04,-49.96 -150.04,50.04 49.96,50.04 49.96,-49.96 -150.04,-49.96
Mechanical 16:
  region: 30,30 30,-30 -130,-30 -130,30
  lines w1: -130,-30 30,-30 30,30 -130,30 -130,-30
Mechanical 32:
  text "1" at -10,0 h25
  text "2" at -110,0 h25
  text ".Designator" at 52.96,-110.96 h60
3D body: height 150, standoff 0, extent -130,-30 30,30

## SMA [mil]
pads (2):
  rect 79x66 smd: 1(74.8,0) 2(-74.8,0)
Top Overlay:
  lines w6: -20,0 -15,0 ; -15,-20 -15,20 ; 15,0 20,0 ; -15,0 15,20 15,-20 -15,0 ; -130,-60 120,-60 130,-60 130,60 -130,60 -130,-60
  lines w19.69: -141.17,-51.72 -141.17,48.28
Mechanical 32:
  pour cut-out: -65,-55 -65,55 -90,55 -90,-55
  region: 130,60 -130,60 -130,-60 130,-60
  lines w5: -275,-285 185,-285 ; -87.56,-30 -102.56,-30 -102.56,30 -87.56,30 ; 87.56,-30 102.56,-30 102.56,30 87.56,30 ; -87.56,-55 87.56,-55 87.56,55 -87.56,55 -87.56,-55
  text "2" at -74.8,-6.4 h16
  text "1" at 74.8,-6.4 h16
  text "SMAJ58A" at 0,-69 h30
  text "SMA" at 60,69 h30
  text "Approved" at -2,-101 h35
  text "Remark: Same as DO-214AC" at 155,-85 h25
  text "Rev   : A1" at 155,-125 h25
  text "Date  : 2007-09-09" at 155,-165 h25
  text "Ref PN: DO-214AC(SMA)" at 155,-245 h25
  text "Sofer Lib Information" at 185,-295 h25
  text "Creat : Jacky" at 155,-205 h25
  text ".Designator" at 1,-26 h30
3D body: height 150, standoff 0, extent -130,-60 130,60

## SMB [mil]
pads (2):
  rect 70x90 smd: 1(-90.55,0) 2(90.55,0)
Top Overlay:
  lines w6: -35,0 -20,0 ; 15,-25 15,25 ; 30,0 15,0 ; 15,0 -20,25 -20,-25 15,0
  lines w7.87: -105,-55 -105,-75 105,-75 105,-60 90,-60 90,-75 ; -105,55 -105,75 105,75 105,60 90,60 90,75 ; 95,-75 95,-60 ; 95,60 95,75 ; 100,-75 100,-60 ; 100,60 100,75
  text ".Designator" at 190,25 h34
Mechanical 32:
  region: -105,-69.98 105,-69.98 105,-45 125,-45 125,45 105,45 105,69.98 -105,69.98 -105,45 -125,45 -125,-45 -105,-45
  lines w1: -106.3,-72.83 -106.3,72.84 106.3,72.84 106.3,-72.83 -106.3,-72.83 ; 60,-70 60,75 90,75 90,-70 60,-70
  lines w5: -249,-337 211,-337 ; -92.5,-35 -107.5,-35 -107.5,35 -92.5,35 ; 92.5,-35 107.5,-35 107.5,35 92.5,35 ; -90,-70 90,-70 90,75 -90,75 -90,-70
  text "1" at -90.55,4.27 h16
  text "2" at 90.55,4.27 h16
  text "Approved" at 15,-98.67 h35
  text "Sofer Lib Information" at 211,-347 h25
  text "Ref PN: B340B-13-F" at 181,-297 h25
  text "Creat : Yuki" at 181,-257 h25
  text "Date  : 2007-11-27" at 181,-217 h25
  text "Rev   : A1" at 181,-177 h25
  text "Remark: ***" at 181,-137 h25
  text "SMB" at 25,124 h30
  text "STPS2L40UF" at 10,40 h30
3D body: height 150, standoff 0, extent -125,-69.98 125,69.98